# EAGLE library part 2EDG_C-5.08-07P (library doz)
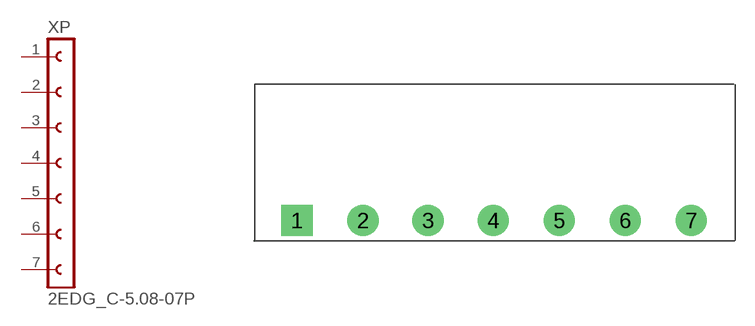
[diagram p6: symbol with the pads of 2EDGRC-5.08-07P; footprint 2EDGRC-5.08-07P]

Designator prefix XP

## 2EDG_C-5.08-07P90DEGREE  [2EDGRC-5.08-07P]
1  1  pas
2  2  pas
3  3  pas
4  4  pas
5  5  pas
6  6  pas
7  7  pas

## Footprint 2EDGRC-5.08-07P (pad centres in mm)
drill 1.6 square: 1 -12.42,-5.08
drill 1.6: 2 -7.34,-5.08; 3 -2.34,-5.08; 4 2.7,-5.08; 5 7.78,-5.08; 6 12.86,-5.08; 7 17.94,-5.08